# EAGLE library part GPS_FGPMMOPA6H (library 0_MyLIB)
GPS Module - MTK MT3339 Chipset, -165dBm sensitivity, 22 channels, 10Hz, auto-select external antenna options
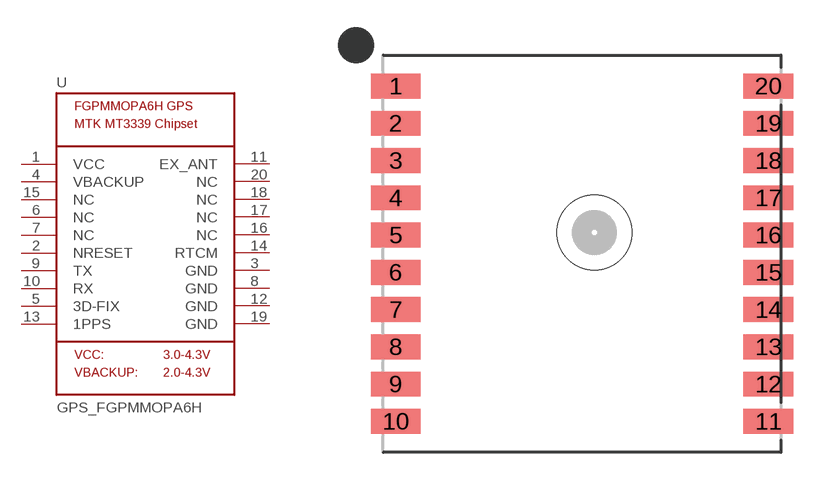
[diagram p8: symbol with the pads of FGPMMOPA6H; footprint FGPMMOPA6H]

Designator prefix U

## GPS_FGPMMOPA6H  [FGPMMOPA6H]
1  VCC
2  NRESET
3  GND
4  VBACKUP
5  3D-FIX
6  NC
7  NC
8  GND
9  TX
10  RX
11  EX_ANT
12  GND
13  1PPS
14  RTCM
15  NC
16  NC
17  NC
18  NC
19  GND
20  NC

## Footprint FGPMMOPA6H (pad centres in mm)
smd 2 x 1: 1 -7.5,6.75; 2 -7.5,5.25; 3 -7.5,3.75; 4 -7.5,2.25; 5 -7.5,0.75; 6 -7.5,-0.75; 7 -7.5,-2.25; 8 -7.5,-3.75; 9 -7.5,-5.25; 10 -7.5,-6.75; 11 7.5,-6.75; 12 7.5,-5.25; 13 7.5,-3.75; 14 7.5,-2.25; 15 7.5,-0.75; 16 7.5,0.75; 17 7.5,2.25; 18 7.5,3.75; 19 7.5,5.25; 20 7.5,6.75
hole 3 at 0.5,0.85